# Altium schematic symbol library LQH43CN100K03L.SchLib: 1 symbol
Pins are listed as number, name and electrical type; pins without a type are passive.

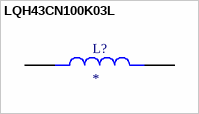
[diagram p0: symbol LQH43CN100K03L]

## LQH43CN100K03L
designator L?
Inductor with Inductance: 10uH Tol. +/-10%, Package: 1812 (4532); MP: LQH43CN100K03L; MF: Murata; SnapEDA_Link: https://www.snapeda.com/parts/LQH43CN100K03L/Murata/view-part/?ref=snap; Availability: In Stock; Package: NONSTANDARD; Check_prices: https://www.snapeda.com/parts/LQH43CN100K03L/Murata/view-part/?ref=eda; Value: *; Purchase-URL: https://pricing.snapeda.com/search/part/LQH43CN100K03L/?ref=eda; Price: None
footprint IND_LQH43CN100K03L
pins: 1, 2